# Altium footprint library SnapEDApcb.PcbLib: 1 footprints
Each footprint in its own frame and in the unit in brackets; x right, y up, seen from the top. Pads: shape width x height; smd on the part's side, far side on the other; paste and mask are expansions set on the pad; w line width, h text height; cw(c..) or ccw(c..) is an arc to the next point about the centre after c.
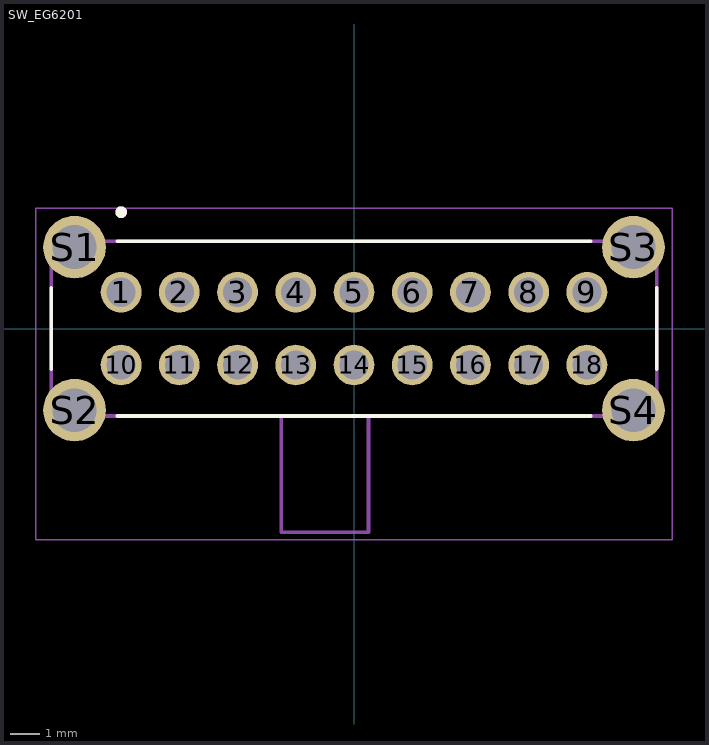
[diagram p0: the footprint, top view; thin cyan lines are the x and y axes]

## SW_EG6201 [mm]
pads (22):
  round 1.4 hole 1: 1(-8,1.25) 2(-6,1.25) 3(-4,1.25) 4(-2,1.25) 5(0,1.25) 6(2,1.25) 7(4,1.25) 8(6,1.25) 9(8,1.25) 10(-8,-1.25) 11(-6,-1.25) 12(-4,-1.25) 13(-2,-1.25) 14(0,-1.25) 15(2,-1.25) 16(4,-1.25) 17(6,-1.25) 18(8,-1.25)
  round 2.15 hole 1.5: S1(-9.6,2.8) S2(-9.6,-2.8) S3(9.6,2.8) S4(9.6,-2.8)
Top Overlay:
  circle w0.2: c-8,4 r0.1
  lines w0.127: -10.4,-1.4 -10.4,1.4 ; -8.125,-3 8.125,-3 ; -8.125,3 8.125,3 ; 10.4,-1.4 10.4,1.4
Mechanical 13:
  circle w0.2: c-8,4 r0.1
  lines w0.127: -2.5,-3 -2.5,-7 0.5,-7 0.5,-3 ; -2.5,-3 -10.4,-3 -10.4,3 10.4,3 10.4,-3 0.5,-3 ; -2.5,-3 0.5,-3
Mechanical 15:
  lines w0.05: -10.93,-7.25 -10.93,4.13 10.93,4.13 10.93,-7.25 -10.93,-7.25
3D body "EG6201--3DModel-STEP-56544.STEP": height 5, standoff -3, extent -10.414,-6.985 10.386,3.015